# EAGLE library part LEVEL_SHIFTER (library LevelShifter)
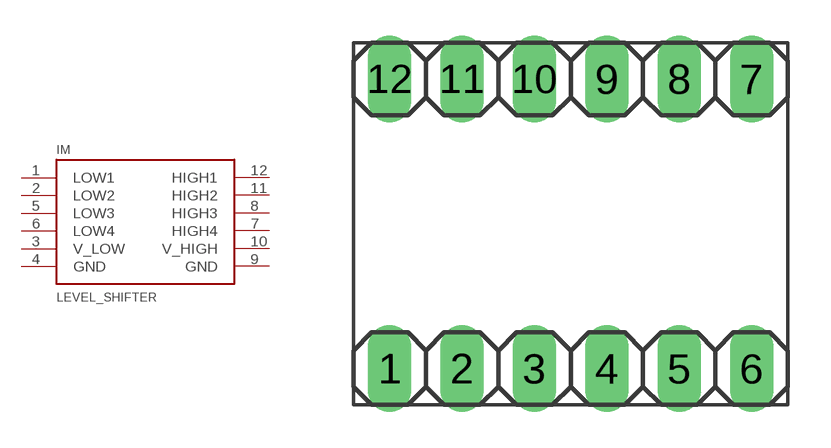
[diagram p0: symbol with the pads of LEVEL_SHIFTER; footprint LEVEL_SHIFTER]

Designator prefix IM

## LEVEL_SHIFTER  [LEVEL_SHIFTER]
1  LOW1
2  LOW2
3  V_LOW
4  GND
5  LOW3
6  LOW4
7  HIGH4
8  HIGH3
9  GND
10  V_HIGH
11  HIGH2
12  HIGH1

## Footprint LEVEL_SHIFTER (pad centres in mm)
drill 1.016 long: 1 1.27,1.27; 2 3.81,1.27; 3 6.35,1.27; 4 8.89,1.27; 5 11.43,1.27; 6 13.97,1.27; 7 13.97,11.43; 8 11.43,11.43; 9 8.89,11.43; 10 6.35,11.43; 11 3.81,11.43; 12 1.27,11.43